# EAGLE library part AVR_PROG (library maxorig)
AVR ISP 6 Pin This is the reduced ISP connector for AVR programming. Common on Arduino. This footprint will take up less PCB space and can be used with a 10-pin to 6-pin adapter such as SKU: BOB-08508 **Special note about "TEST_POINT" package. The stop mask is on the top side, so if you want your programming test points to be on the bottom of your board, make sure to place this package on the bottom side of the board. This also ensure that the orientation to program from the bottom side will be correct.
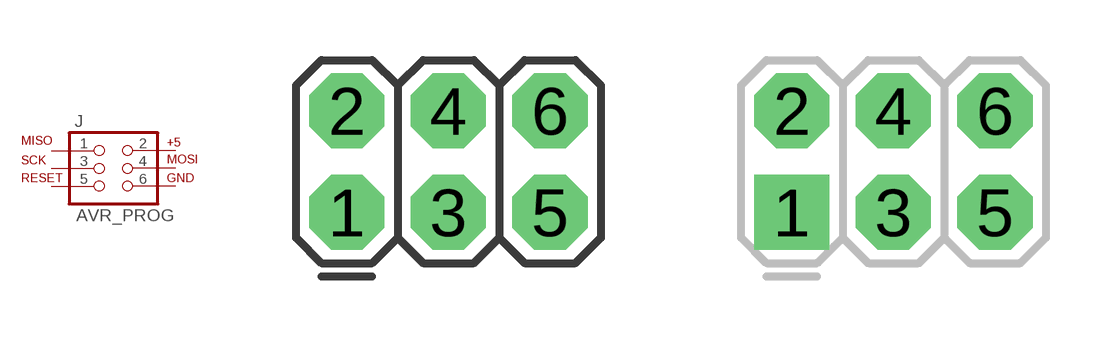
[diagram p2: symbol with the pads of 2X3; footprints 2X3, 2X3-NS]

Designator prefix J

## AVR_PROGPTH  [2X3]
1  MISO  pas
2  VIN  pas
3  SCK  pas
4  MOSI  pas
5  RESET  pas
6  GND  pas

## AVR_PROGNS  [2X3-NS]
Pads as for 2X3

## AVR_PROGOFFSET_PADS  [2X3_OFFSET]
Pads as for 2X3

## AVR_PROG2X3_LOCK  [2X3_LOCK]
Pads as for 2X3

## AVR_PROGTESTPOINTS  [2X3_TEST_POINTS]
Pads as for 2X3

## AVR_PROGPOGOJIG  [2X3_MAX]
P$1  MISO  pas
P$2  VIN  pas
P$3  SCK  pas
P$4  MOSI  pas
P$5  RESET  pas
P$6  GND  pas

## Footprint 2X3 (pad centres in mm)
drill 1.016 pad 1.88 octagon: 1 0,0; 2 0,2.54; 3 2.54,0; 4 2.54,2.54; 5 5.08,0; 6 5.08,2.54

## Footprint 2X3-NS (pad centres in mm)
drill 1.016 pad 1.88 square: 1 -2.54,-1.27
drill 1.016 pad 1.88 octagon: 2 -2.54,1.27; 3 0,-1.27; 4 0,1.27; 5 2.54,-1.27; 6 2.54,1.27

## Footprint 2X3_OFFSET (pad centres in mm)
drill 1.118 pad 1.88 offset: 1 -2.54,-1.27; 2 -2.54,1.27; 3 0,-1.27; 4 0,1.27; 5 2.54,-1.27; 6 2.54,1.27

## Footprint 2X3_LOCK (pad centres in mm)
drill 1.016 pad 1.88 octagon: 1 0,0; 2 0,2.54; 3 2.54,-0.254; 4 2.54,2.286; 5 5.08,0; 6 5.08,2.54

## Footprint 2X3_TEST_POINTS (pad centres in mm)
drill 0.508: 1 -2.54,-1.27; 2 -2.54,1.27; 3 0,-1.27; 4 0,1.27; 5 2.54,-1.27; 6 2.54,1.27

## Footprint 2X3_MAX (pad centres in mm)
drill 0.508 square: P$1 -2.54,-1.27
smd 1.27 x 1.27: P$2 -2.54,1.27; P$3 0,-1.27; P$4 0,1.27; P$5 2.54,-1.27
drill 0.508: P$6 2.54,1.27